# EAGLE library part SHARP-PC-CONNECTOR (library KaiBader-Sharp-PC)
Sharp PC-1500(A) / PC-1600 60-pin External Connector
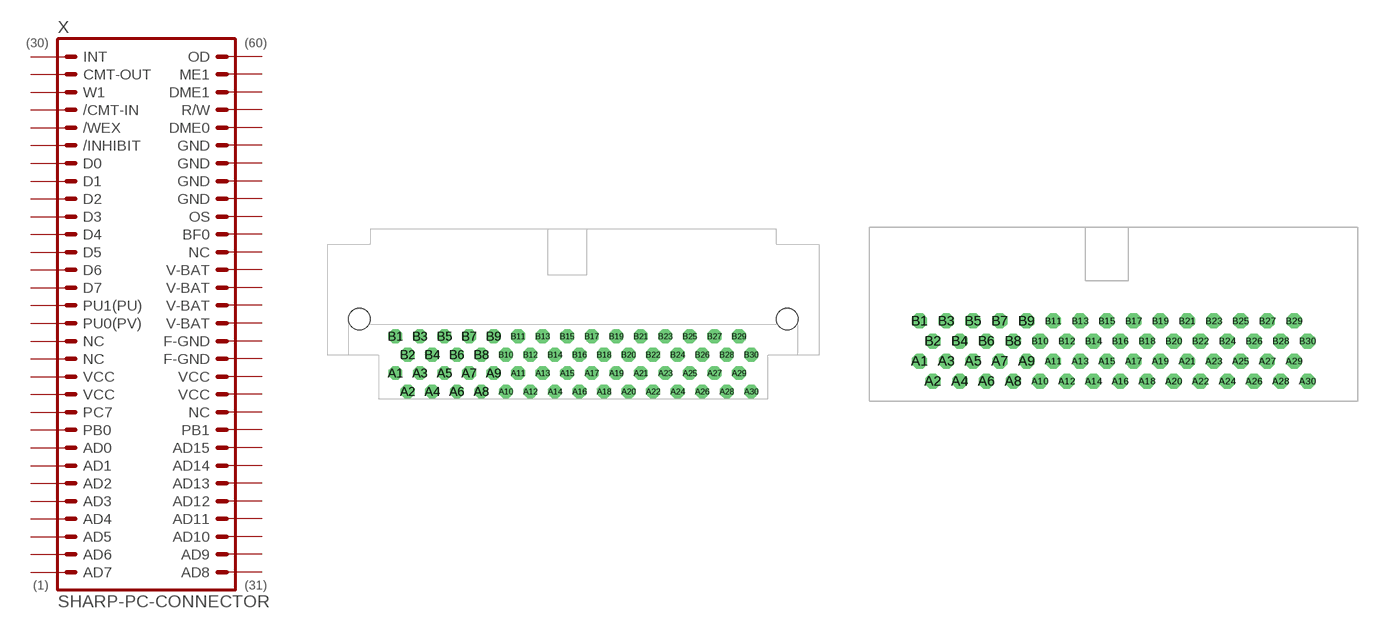
[diagram p1: symbol with the pads of JAE-PICL-60P-ST; footprints JAE-PICL-60P-ST, HIF6A-60PA-1.27DS]

Designator prefix X

## SHARP-PC-CONNECTOR-JAE  [JAE-PICL-60P-ST]
A1  INT  pas
A2  CMT-OUT  pas
A3  W1  pas
A4  /CMT-IN  pas
A5  /WEX  pas
A6  /INHIBIT  pas
A7  D0  pas
A8  D1  pas
A9  D2  pas
A10  D3  pas
A11  D4  pas
A12  D5  pas
A13  D6  pas
A14  D7  pas
A15  PU1(PU)  pas
A16  PU0(PV)  pas
A17  NC  nc
A18  NC  nc
A19  VCC  pas
A20  VCC  pas
A21  PC7  pas
A22  PB0  pas
A23  AD0  pas
A24  AD1  pas
A25  AD2  pas
A26  AD3  pas
A27  AD4  pas
A28  AD5  pas
A29  AD6  pas
A30  AD7  pas
B1  OD  pas
B2  ME1  pas
B3  DME1  pas
B4  R/W  pas
B5  DME0  pas
B6  GND  pas
B7  GND  pas
B8  GND  pas
B9  GND  pas
B10  OS  pas
B11  BF0  pas
B12  NC  nc
B13  V-BAT  pas
B14  V-BAT  pas
B15  V-BAT  pas
B16  V-BAT  pas
B17  F-GND  pas
B18  F-GND  pas
B19  VCC  pas
B20  VCC  pas
B21  NC  nc
B22  PB1  pas
B23  AD15  pas
B24  AD14  pas
B25  AD13  pas
B26  AD12  pas
B27  AD11  pas
B28  AD10  pas
B29  AD9  pas
B30  AD8  pas

## SHARP-PC-CONNECTOR-HIF6A  [HIF6A-60PA-1.27DS]
Pads as for JAE-PICL-60P-ST

## SHARP-PC-CONNECTOR-HIF6B  [HIF6B-60PA-1.27DSL]
Pads as for JAE-PICL-60P-ST

## SHARP-PC-CONNECTOR-COMBINED  [JAE-HIF6A-HIF6B-COMBINED]
Pads as for JAE-PICL-60P-ST

## Footprint JAE-PICL-60P-ST (pad centres in mm)
Layout for the Sharp PC connector type JAE-PICL-60P-ST
drill 0.8 pad 1.422 octagon: A1 -17.78,-1.27; A2 -16.51,-3.175; A3 -15.24,-1.27; A4 -13.97,-3.175; A5 -12.7,-1.27; A6 -11.43,-3.175; A7 -10.16,-1.27; A8 -8.89,-3.175; A9 -7.62,-1.27; A10 -6.35,-3.175; A11 -5.08,-1.27; A12 -3.81,-3.175; A13 -2.54,-1.27; A14 -1.27,-3.175; A15 0,-1.27; A16 1.27,-3.175; A17 2.54,-1.27; A18 3.81,-3.175; A19 5.08,-1.27; A20 6.35,-3.175; A21 7.62,-1.27; A22 8.89,-3.175; A23 10.16,-1.27; A24 11.43,-3.175; A25 12.7,-1.27; A26 13.97,-3.175; A27 15.24,-1.27; A28 16.51,-3.175; A29 17.78,-1.27; A30 19.05,-3.175; B1 -17.78,2.54; B2 -16.51,0.635; B3 -15.24,2.54; B4 -13.97,0.635; B5 -12.7,2.54; B6 -11.43,0.635; B7 -10.16,2.54; B8 -8.89,0.635; B9 -7.62,2.54; B10 -6.35,0.635; B11 -5.08,2.54; B12 -3.81,0.635; B13 -2.54,2.54; B14 -1.27,0.635; B15 0,2.54; B16 1.27,0.635; B17 2.54,2.54; B18 3.81,0.635; B19 5.08,2.54; B20 6.35,0.635; B21 7.62,2.54; B22 8.89,0.635; B23 10.16,2.54; B24 11.43,0.635; B25 12.7,2.54; B26 13.97,0.635; B27 15.24,2.54; B28 16.51,0.635; B29 17.78,2.54; B30 19.05,0.635
hole 2.2 at 22.784,4.318
hole 2.2 at -21.514,4.318

## Footprint HIF6A-60PA-1.27DS (pad centres in mm)
Layout for the Sharp PC (compatible) connector type HIF6A-60PA-1.27DS Datasheet: http://www.hirose.co.jp/cataloge_hp/e63000118.pdf
drill 0.8 pad 1.422 octagon: A1 -17.78,-1.27; A2 -16.51,-3.175; A3 -15.24,-1.27; A4 -13.97,-3.175; A5 -12.7,-1.27; A6 -11.43,-3.175; A7 -10.16,-1.27; A8 -8.89,-3.175; A9 -7.62,-1.27; A10 -6.35,-3.175; A11 -5.08,-1.27; A12 -3.81,-3.175; A13 -2.54,-1.27; A14 -1.27,-3.175; A15 0,-1.27; A16 1.27,-3.175; A17 2.54,-1.27; A18 3.81,-3.175; A19 5.08,-1.27; A20 6.35,-3.175; A21 7.62,-1.27; A22 8.89,-3.175; A23 10.16,-1.27; A24 11.43,-3.175; A25 12.7,-1.27; A26 13.97,-3.175; A27 15.24,-1.27; A28 16.51,-3.175; A29 17.78,-1.27; A30 19.05,-3.175; B1 -17.78,2.54; B2 -16.51,0.635; B3 -15.24,2.54; B4 -13.97,0.635; B5 -12.7,2.54; B6 -11.43,0.635; B7 -10.16,2.54; B8 -8.89,0.635; B9 -7.62,2.54; B10 -6.35,0.635; B11 -5.08,2.54; B12 -3.81,0.635; B13 -2.54,2.54; B14 -1.27,0.635; B15 0,2.54; B16 1.27,0.635; B17 2.54,2.54; B18 3.81,0.635; B19 5.08,2.54; B20 6.35,0.635; B21 7.62,2.54; B22 8.89,0.635; B23 10.16,2.54; B24 11.43,0.635; B25 12.7,2.54; B26 13.97,0.635; B27 15.24,2.54; B28 16.51,0.635; B29 17.78,2.54; B30 19.05,0.635

## Footprint HIF6B-60PA-1.27DSL (pad centres in mm)
Layout for the Sharp PC (compatible) connector type HIF6B-60PA-1.27DSL Datasheet: http://www.hirose.co.jp/cataloge_hp/e63000118.pdf WARNING: Untested layout!
drill 0.8 pad 1.422 octagon: A1 -17.78,-1.27; A2 -16.51,-3.175; A3 -15.24,-1.27; A4 -13.97,-3.175; A5 -12.7,-1.27; A6 -11.43,-3.175; A7 -10.16,-1.27; A8 -8.89,-3.175; A9 -7.62,-1.27; A10 -6.35,-3.175; A11 -5.08,-1.27; A12 -3.81,-3.175; A13 -2.54,-1.27; A14 -1.27,-3.175; A15 0,-1.27; A16 1.27,-3.175; A17 2.54,-1.27; A18 3.81,-3.175; A19 5.08,-1.27; A20 6.35,-3.175; A21 7.62,-1.27; A22 8.89,-3.175; A23 10.16,-1.27; A24 11.43,-3.175; A25 12.7,-1.27; A26 13.97,-3.175; A27 15.24,-1.27; A28 16.51,-3.175; A29 17.78,-1.27; A30 19.05,-3.175; B1 -17.78,2.54; B2 -16.51,0.635; B3 -15.24,2.54; B4 -13.97,0.635; B5 -12.7,2.54; B6 -11.43,0.635; B7 -10.16,2.54; B8 -8.89,0.635; B9 -7.62,2.54; B10 -6.35,0.635; B11 -5.08,2.54; B12 -3.81,0.635; B13 -2.54,2.54; B14 -1.27,0.635; B15 0,2.54; B16 1.27,0.635; B17 2.54,2.54; B18 3.81,0.635; B19 5.08,2.54; B20 6.35,0.635; B21 7.62,2.54; B22 8.89,0.635; B23 10.16,2.54; B24 11.43,0.635; B25 12.7,2.54; B26 13.97,0.635; B27 15.24,2.54; B28 16.51,0.635; B29 17.78,2.54; B30 19.05,0.635
hole 2.2 at -25.4,2.54
hole 2.2 at 26.67,2.54

## Footprint JAE-HIF6A-HIF6B-COMBINED (pad centres in mm)
Combined layout for three Sharp PC (compatible) connector types. JAE-PICL-60P-ST HIF6A-60PA-1.27DS HIF6B-60PA-1.27DSL WARNING: Untested layout!
drill 0.8 pad 1.422 octagon: A1 -17.78,-1.27; A2 -16.51,-3.175; A3 -15.24,-1.27; A4 -13.97,-3.175; A5 -12.7,-1.27; A6 -11.43,-3.175; A7 -10.16,-1.27; A8 -8.89,-3.175; A9 -7.62,-1.27; A10 -6.35,-3.175; A11 -5.08,-1.27; A12 -3.81,-3.175; A13 -2.54,-1.27; A14 -1.27,-3.175; A15 0,-1.27; A16 1.27,-3.175; A17 2.54,-1.27; A18 3.81,-3.175; A19 5.08,-1.27; A20 6.35,-3.175; A21 7.62,-1.27; A22 8.89,-3.175; A23 10.16,-1.27; A24 11.43,-3.175; A25 12.7,-1.27; A26 13.97,-3.175; A27 15.24,-1.27; A28 16.51,-3.175; A29 17.78,-1.27; A30 19.05,-3.175; B1 -17.78,2.54; B2 -16.51,0.635; B3 -15.24,2.54; B4 -13.97,0.635; B5 -12.7,2.54; B6 -11.43,0.635; B7 -10.16,2.54; B8 -8.89,0.635; B9 -7.62,2.54; B10 -6.35,0.635; B11 -5.08,2.54; B12 -3.81,0.635; B13 -2.54,2.54; B14 -1.27,0.635; B15 0,2.54; B16 1.27,0.635; B17 2.54,2.54; B18 3.81,0.635; B19 5.08,2.54; B20 6.35,0.635; B21 7.62,2.54; B22 8.89,0.635; B23 10.16,2.54; B24 11.43,0.635; B25 12.7,2.54; B26 13.97,0.635; B27 15.24,2.54; B28 16.51,0.635; B29 17.78,2.54; B30 19.05,0.635
hole 2.2 at 23.279,-0.318
hole 2.2 at -22.009,-0.318
hole 2.2 at -25.4,2.54
hole 2.2 at 26.67,2.54